# Altium footprint library MCU_Footprints.PcbLib: 1 footprints
Each footprint in its own frame and in the unit in brackets; x right, y up, seen from the top. Pads: shape width x height; smd on the part's side, far side on the other; paste and mask are expansions set on the pad; w line width, h text height; cw(c..) or ccw(c..) is an arc to the next point about the centre after c.
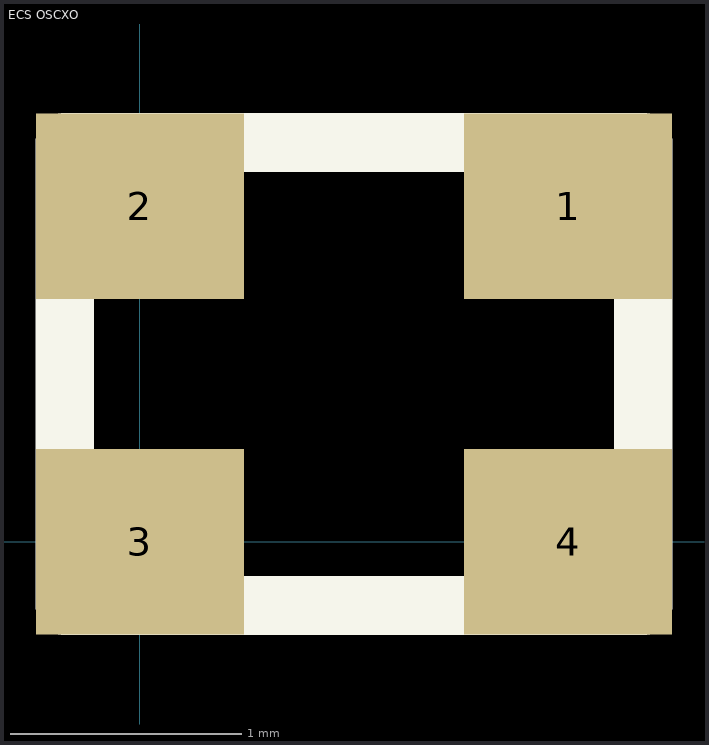
[diagram p0: the footprint, top view; thin cyan lines are the x and y axes]

## ECS OSCXO [mm]
pads (4):
  rect 0.9x0.8 smd: 1(1.85,1.45) 2(0,1.45) 3(0,0) 4(1.85,0)
Top Overlay:
  lines w0.254: -0.325,-0.275 -0.325,1.725 2.175,1.725 2.175,-0.275 -0.325,-0.275
3D body: height 0.8, standoff 0, extent -0.325,-0.275 2.175,1.725